# Altium footprint library IOTPcbLib.PcbLib: 1 footprints
Each footprint in its own frame and in the unit in brackets; x right, y up, seen from the top. Pads: shape width x height; smd on the part's side, far side on the other; paste and mask are expansions set on the pad; w line width, h text height; cw(c..) or ccw(c..) is an arc to the next point about the centre after c.
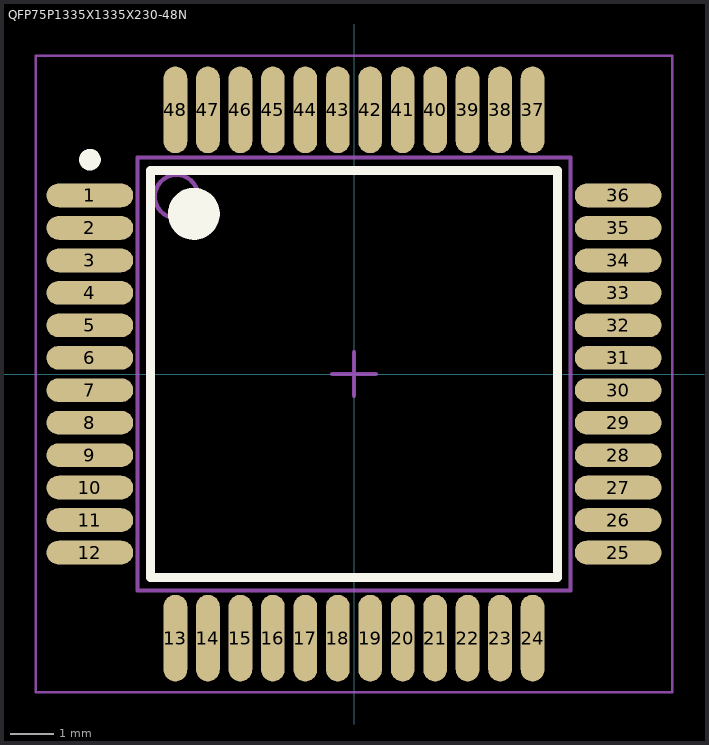
[diagram p0: the footprint, top view; thin cyan lines are the x and y axes]

## QFP75P1335X1335X230-48N [mm] "QFP, 48-Leads, Body 10.00x10.00mm, Pitch 0.75mm, IPC Medium Density"
height 2.3
pads (48):
  oval 2x0.55 smd: 1(-6.1,4.125) 2(-6.1,3.375) 3(-6.1,2.625) 4(-6.1,1.875) 5(-6.1,1.125) 6(-6.1,0.375) 7(-6.1,-0.375) 8(-6.1,-1.125) 9(-6.1,-1.875) 10(-6.1,-2.625) 11(-6.1,-3.375) 12(-6.1,-4.125) 25(6.1,-4.125) 26(6.1,-3.375) 27(6.1,-2.625) 28(6.1,-1.875) 29(6.1,-1.125) 30(6.1,-0.375) 31(6.1,0.375) 32(6.1,1.125) 33(6.1,1.875) 34(6.1,2.625) 35(6.1,3.375) 36(6.1,4.125)
  oval 0.55x2 smd: 13(-4.125,-6.1) 14(-3.375,-6.1) 15(-2.625,-6.1) 16(-1.875,-6.1) 17(-1.125,-6.1) 18(-0.375,-6.1) 19(0.375,-6.1) 20(1.125,-6.1) 21(1.875,-6.1) 22(2.625,-6.1) 23(3.375,-6.1) 24(4.125,-6.1) 37(4.125,6.1) 38(3.375,6.1) 39(2.625,6.1) 40(1.875,6.1) 41(1.125,6.1) 42(0.375,6.1) 43(-0.375,6.1) 44(-1.125,6.1) 45(-1.875,6.1) 46(-2.625,6.1) 47(-3.375,6.1) 48(-4.125,6.1)
Top Overlay:
  circle w0.6: c-3.7,3.7 r0.3
  circle w0.25: c-6.1,4.95 r0.125
  lines w0.2: -4.7,-4.7 4.7,-4.7 4.7,4.7 -4.7,4.7 -4.7,-4.7
Mechanical 13:
  circle w0.1: c-4.1,4.1 r0.5
  lines w0.1: -5,-5 5,-5 5,5 -5,5 -5,-5
Mechanical 15:
  lines w0.05: -7.35,-7.35 7.35,-7.35 7.35,7.35 -7.35,7.35 -7.35,-7.35
  lines w0.1: -0.5,0 0.5,0 ; 0,-0.5 0,0.5
3D body: height 2.3, standoff 0.05, extent -5,-5 5,5